# Altium schematic symbol library trafo-hammondmfg.SCHLIB: 112 symbols
Pins are listed as number, name and electrical type; pins without a type are passive.

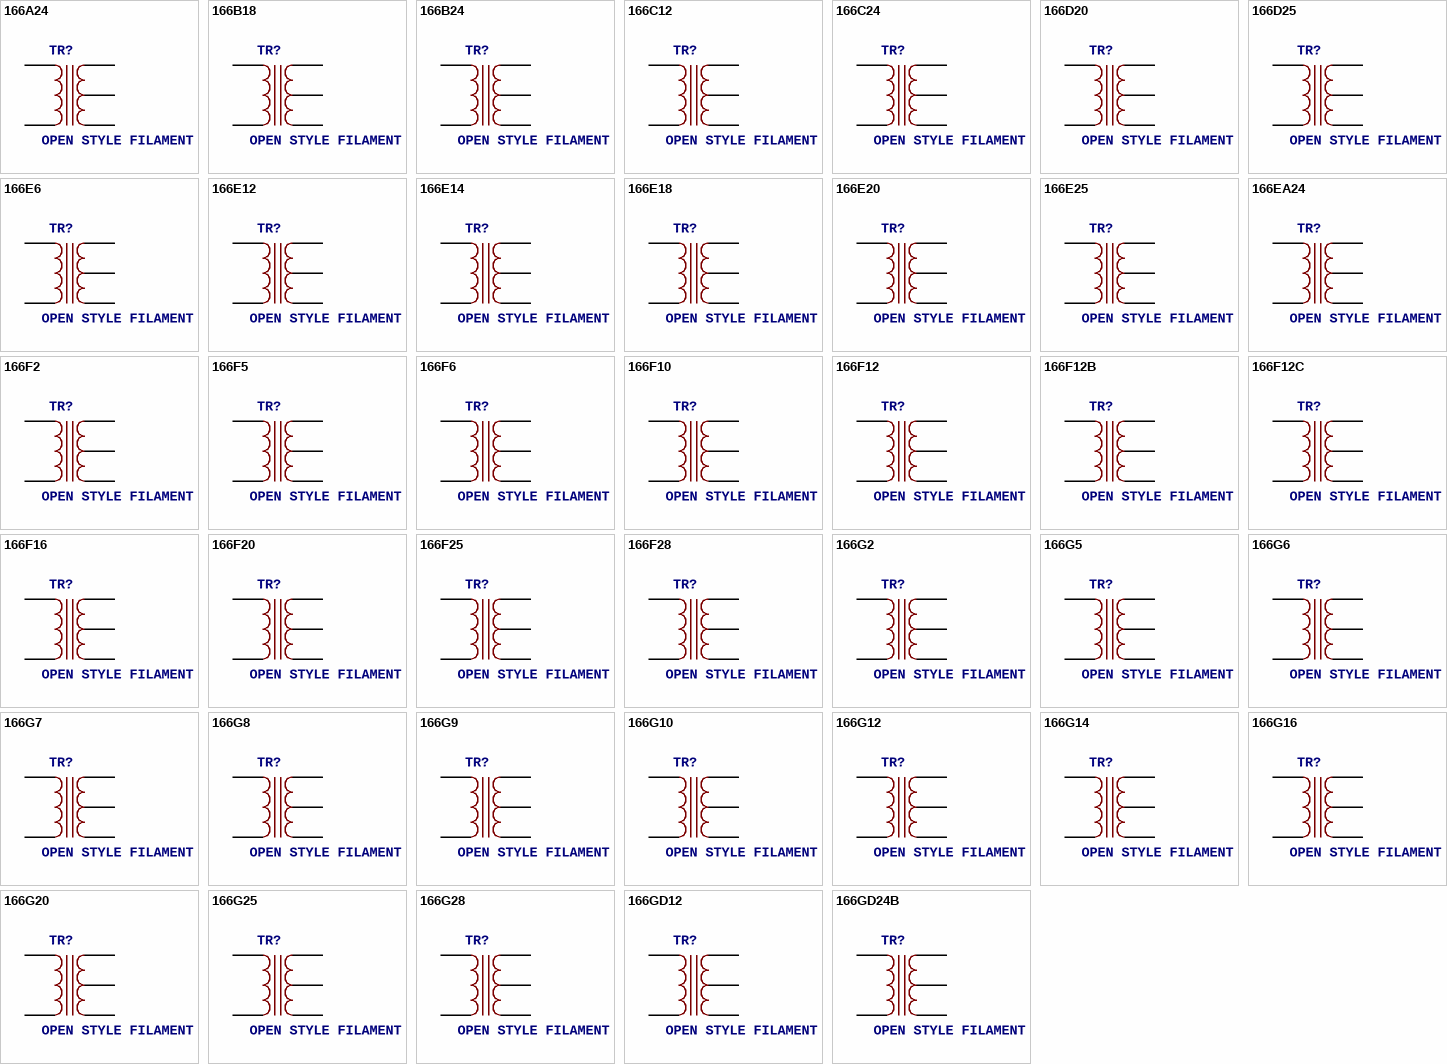
[diagram p0: symbols 166A24 to 166GD24B]

## 166A24
designator TR?, comment OPEN STYLE FILAMENT & L.V. RECTIFIER USE TRANSFORMERS   Economical single primnary 115VAC, 60 Hz or 117 VAC 50/60 Hz Source:  Data sheet
footprint C2H
pins: BLK@1, BLK@2, GRN/YEL, GRN@1, GRN@2

## 166B18
designator TR?, comment OPEN STYLE FILAMENT & L.V. RECTIFIER USE TRANSFORMERS   Economical single primnary 115VAC, 60 Hz or 117 VAC 50/60 Hz Source:  Data sheet
footprint C2H
pins: BLK@1, BLK@2, GRN/YEL, GRN@1, GRN@2

## 166B24
designator TR?, comment OPEN STYLE FILAMENT & L.V. RECTIFIER USE TRANSFORMERS   Economical single primnary 115VAC, 60 Hz or 117 VAC 50/60 Hz Source:  Data sheet
footprint C7H
pins: BLK@1, BLK@2, GRN/YEL, GRN@1, GRN@2

## 166C12
designator TR?, comment OPEN STYLE FILAMENT & L.V. RECTIFIER USE TRANSFORMERS   Economical single primnary 115VAC, 60 Hz or 117 VAC 50/60 Hz Source:  Data sheet
footprint C2H
pins: BLK@1, BLK@2, GRN/YEL, GRN@1, GRN@2

## 166C24
designator TR?, comment OPEN STYLE FILAMENT & L.V. RECTIFIER USE TRANSFORMERS   Economical single primnary 115VAC, 60 Hz or 117 VAC 50/60 Hz Source:  Data sheet
footprint C3H
pins: BLK@1, BLK@2, GRN/YEL, GRN@1, GRN@2

## 166D20
designator TR?, comment OPEN STYLE FILAMENT & L.V. RECTIFIER USE TRANSFORMERS   Economical single primnary 115VAC, 60 Hz or 117 VAC 50/60 Hz Source:  Data sheet
footprint C3H
pins: BLK@1, BLK@2, GRN/YEL, GRN@1, GRN@2

## 166D25
designator TR?, comment OPEN STYLE FILAMENT & L.V. RECTIFIER USE TRANSFORMERS   Economical single primnary 115VAC, 60 Hz or 117 VAC 50/60 Hz Source:  Data sheet
footprint C3H
pins: BLK@1, BLK@2, GRN/YEL, GRN@1, GRN@2

## 166E6
designator TR?, comment OPEN STYLE FILAMENT & L.V. RECTIFIER USE TRANSFORMERS   Economical single primnary 115VAC, 60 Hz or 117 VAC 50/60 Hz Source:  Data sheet
footprint C2H
pins: BLK@1, BLK@2, GRN/YEL, GRN@1, GRN@2

## 166E12
designator TR?, comment OPEN STYLE FILAMENT & L.V. RECTIFIER USE TRANSFORMERS   Economical single primnary 115VAC, 60 Hz or 117 VAC 50/60 Hz Source:  Data sheet
footprint C3H
pins: BLK@1, BLK@2, GRN/YEL, GRN@1, GRN@2

## 166E14
designator TR?, comment OPEN STYLE FILAMENT & L.V. RECTIFIER USE TRANSFORMERS   Economical single primnary 115VAC, 60 Hz or 117 VAC 50/60 Hz Source:  Data sheet
footprint C3H
pins: BLK@1, BLK@2, GRN/YEL, GRN@1, GRN@2

## 166E18
designator TR?, comment OPEN STYLE FILAMENT & L.V. RECTIFIER USE TRANSFORMERS   Economical single primnary 115VAC, 60 Hz or 117 VAC 50/60 Hz Source:  Data sheet
footprint C5H
pins: BLK@1, BLK@2, GRN/YEL, GRN@1, GRN@2

## 166E20
designator TR?, comment OPEN STYLE FILAMENT & L.V. RECTIFIER USE TRANSFORMERS   Economical single primnary 115VAC, 60 Hz or 117 VAC 50/60 Hz Source:  Data sheet
footprint C3H
pins: BLK@1, BLK@2, GRN/YEL, GRN@1, GRN@2

## 166E25
designator TR?, comment OPEN STYLE FILAMENT & L.V. RECTIFIER USE TRANSFORMERS   Economical single primnary 115VAC, 60 Hz or 117 VAC 50/60 Hz Source:  Data sheet
footprint C4H
pins: BLK@1, BLK@2, GRN/YEL, GRN@1, GRN@2

## 166EA24
designator TR?, comment OPEN STYLE FILAMENT & L.V. RECTIFIER USE TRANSFORMERS   Economical single primnary 115VAC, 60 Hz or 117 VAC 50/60 Hz Source:  Data sheet
footprint C5H
pins: BLK@1, BLK@2, GRN/YEL, GRN@1, GRN@2

## 166F2
designator TR?, comment OPEN STYLE FILAMENT & L.V. RECTIFIER USE TRANSFORMERS   Economical single primnary 115VAC, 60 Hz or 117 VAC 50/60 Hz Source:  Data sheet
footprint C2H
pins: BLK@1, BLK@2, GRN/YEL, GRN@1, GRN@2

## 166F5
designator TR?, comment OPEN STYLE FILAMENT & L.V. RECTIFIER USE TRANSFORMERS   Economical single primnary 115VAC, 60 Hz or 117 VAC 50/60 Hz Source:  Data sheet
footprint C2H
pins: BLK@1, BLK@2, GRN/YEL, GRN@1, GRN@2

## 166F6
designator TR?, comment OPEN STYLE FILAMENT & L.V. RECTIFIER USE TRANSFORMERS   Economical single primnary 115VAC, 60 Hz or 117 VAC 50/60 Hz Source:  Data sheet
footprint C3H
pins: BLK@1, BLK@2, GRN/YEL, GRN@1, GRN@2

## 166F10
designator TR?, comment OPEN STYLE FILAMENT & L.V. RECTIFIER USE TRANSFORMERS   Economical single primnary 115VAC, 60 Hz or 117 VAC 50/60 Hz Source:  Data sheet
footprint C3H
pins: BLK@1, BLK@2, GRN/YEL, GRN@1, GRN@2

## 166F12
designator TR?, comment OPEN STYLE FILAMENT & L.V. RECTIFIER USE TRANSFORMERS   Economical single primnary 115VAC, 60 Hz or 117 VAC 50/60 Hz Source:  Data sheet
footprint C4H
pins: BLK@1, BLK@2, GRN/YEL, GRN@1, GRN@2

## 166F12B
designator TR?, comment OPEN STYLE FILAMENT & L.V. RECTIFIER USE TRANSFORMERS   Economical single primnary 115VAC, 60 Hz or 117 VAC 50/60 Hz Source:  Data sheet
footprint C4H
pins: BLK@1, BLK@2, GRN/YEL, GRN@1, GRN@2

## 166F12C
designator TR?, comment OPEN STYLE FILAMENT & L.V. RECTIFIER USE TRANSFORMERS   Economical single primnary 115VAC, 60 Hz or 117 VAC 50/60 Hz Source:  Data sheet
footprint C4H
pins: BLK@1, BLK@2, GRN/YEL, GRN@1, GRN@2

## 166F16
designator TR?, comment OPEN STYLE FILAMENT & L.V. RECTIFIER USE TRANSFORMERS   Economical single primnary 115VAC, 60 Hz or 117 VAC 50/60 Hz Source:  Data sheet
footprint C4H
pins: BLK@1, BLK@2, GRN/YEL, GRN@1, GRN@2

## 166F20
designator TR?, comment OPEN STYLE FILAMENT & L.V. RECTIFIER USE TRANSFORMERS   Economical single primnary 115VAC, 60 Hz or 117 VAC 50/60 Hz Source:  Data sheet
footprint C5H
pins: BLK@1, BLK@2, GRN/YEL, GRN@1, GRN@2

## 166F25
designator TR?, comment OPEN STYLE FILAMENT & L.V. RECTIFIER USE TRANSFORMERS   Economical single primnary 115VAC, 60 Hz or 117 VAC 50/60 Hz Source:  Data sheet
footprint C6H
pins: BLK@1, BLK@2, GRN/YEL, GRN@1, GRN@2

## 166F28
designator TR?, comment OPEN STYLE FILAMENT & L.V. RECTIFIER USE TRANSFORMERS   Economical single primnary 115VAC, 60 Hz or 117 VAC 50/60 Hz Source:  Data sheet
footprint C6H
pins: BLK@1, BLK@2, GRN/YEL, GRN@1, GRN@2

## 166G2
designator TR?, comment OPEN STYLE FILAMENT & L.V. RECTIFIER USE TRANSFORMERS   Economical single primnary 115VAC, 60 Hz or 117 VAC 50/60 Hz Source:  Data sheet
footprint C2H
pins: BLK@1, BLK@2, GRN/YEL, GRN@1, GRN@2

## 166G5
designator TR?, comment OPEN STYLE FILAMENT & L.V. RECTIFIER USE TRANSFORMERS   Economical single primnary 115VAC, 60 Hz or 117 VAC 50/60 Hz Source:  Data sheet
footprint C3H
pins: BLK@1, BLK@2, GRN/YEL, GRN@1, GRN@2

## 166G6
designator TR?, comment OPEN STYLE FILAMENT & L.V. RECTIFIER USE TRANSFORMERS   Economical single primnary 115VAC, 60 Hz or 117 VAC 50/60 Hz Source:  Data sheet
footprint C4H
pins: BLK@1, BLK@2, GRN/YEL, GRN@1, GRN@2

## 166G7
designator TR?, comment OPEN STYLE FILAMENT & L.V. RECTIFIER USE TRANSFORMERS   Economical single primnary 115VAC, 60 Hz or 117 VAC 50/60 Hz Source:  Data sheet
footprint C5H
pins: BLK@1, BLK@2, GRN/YEL, GRN@1, GRN@2

## 166G8
designator TR?, comment OPEN STYLE FILAMENT & L.V. RECTIFIER USE TRANSFORMERS   Economical single primnary 115VAC, 60 Hz or 117 VAC 50/60 Hz Source:  Data sheet
footprint C4H
pins: BLK@1, BLK@2, GRN/YEL, GRN@1, GRN@2

## 166G9
designator TR?, comment OPEN STYLE FILAMENT & L.V. RECTIFIER USE TRANSFORMERS   Economical single primnary 115VAC, 60 Hz or 117 VAC 50/60 Hz Source:  Data sheet
footprint C4H
pins: BLK@1, BLK@2, GRN/YEL, GRN@1, GRN@2

## 166G10
designator TR?, comment OPEN STYLE FILAMENT & L.V. RECTIFIER USE TRANSFORMERS   Economical single primnary 115VAC, 60 Hz or 117 VAC 50/60 Hz Source:  Data sheet
footprint C5H
pins: BLK@1, BLK@2, GRN/YEL, GRN@1, GRN@2

## 166G12
designator TR?, comment OPEN STYLE FILAMENT & L.V. RECTIFIER USE TRANSFORMERS   Economical single primnary 115VAC, 60 Hz or 117 VAC 50/60 Hz Source:  Data sheet
footprint C6H
pins: BLK@1, BLK@2, GRN/YEL, GRN@1, GRN@2

## 166G14
designator TR?, comment OPEN STYLE FILAMENT & L.V. RECTIFIER USE TRANSFORMERS   Economical single primnary 115VAC, 60 Hz or 117 VAC 50/60 Hz Source:  Data sheet
footprint C6H
pins: BLK@1, BLK@2, GRN/YEL, GRN@1, GRN@2

## 166G16
designator TR?, comment OPEN STYLE FILAMENT & L.V. RECTIFIER USE TRANSFORMERS   Economical single primnary 115VAC, 60 Hz or 117 VAC 50/60 Hz Source:  Data sheet
footprint C6H
pins: BLK@1, BLK@2, GRN/YEL, GRN@1, GRN@2

## 166G20
designator TR?, comment OPEN STYLE FILAMENT & L.V. RECTIFIER USE TRANSFORMERS   Economical single primnary 115VAC, 60 Hz or 117 VAC 50/60 Hz Source:  Data sheet
footprint C7H
pins: BLK@1, BLK@2, GRN/YEL, GRN@1, GRN@2

## 166G25
designator TR?, comment OPEN STYLE FILAMENT & L.V. RECTIFIER USE TRANSFORMERS   Economical single primnary 115VAC, 60 Hz or 117 VAC 50/60 Hz Source:  Data sheet
footprint C7H
pins: BLK@1, BLK@2, GRN/YEL, GRN@1, GRN@2

## 166G28
designator TR?, comment OPEN STYLE FILAMENT & L.V. RECTIFIER USE TRANSFORMERS   Economical single primnary 115VAC, 60 Hz or 117 VAC 50/60 Hz Source:  Data sheet
footprint C7H
pins: BLK@1, BLK@2, GRN/YEL, GRN@1, GRN@2

## 166GD12
designator TR?, comment OPEN STYLE FILAMENT & L.V. RECTIFIER USE TRANSFORMERS   Economical single primnary 115VAC, 60 Hz or 117 VAC 50/60 Hz Source:  Data sheet
footprint C7H
pins: BLK@1, BLK@2, GRN/YEL, GRN@1, GRN@2

## 166GD24B
designator TR?, comment OPEN STYLE FILAMENT & L.V. RECTIFIER USE TRANSFORMERS   Economical single primnary 115VAC, 60 Hz or 117 VAC 50/60 Hz Source:  Data sheet
footprint C9H
pins: BLK@1, BLK@2, GRN/YEL, GRN@1, GRN@2

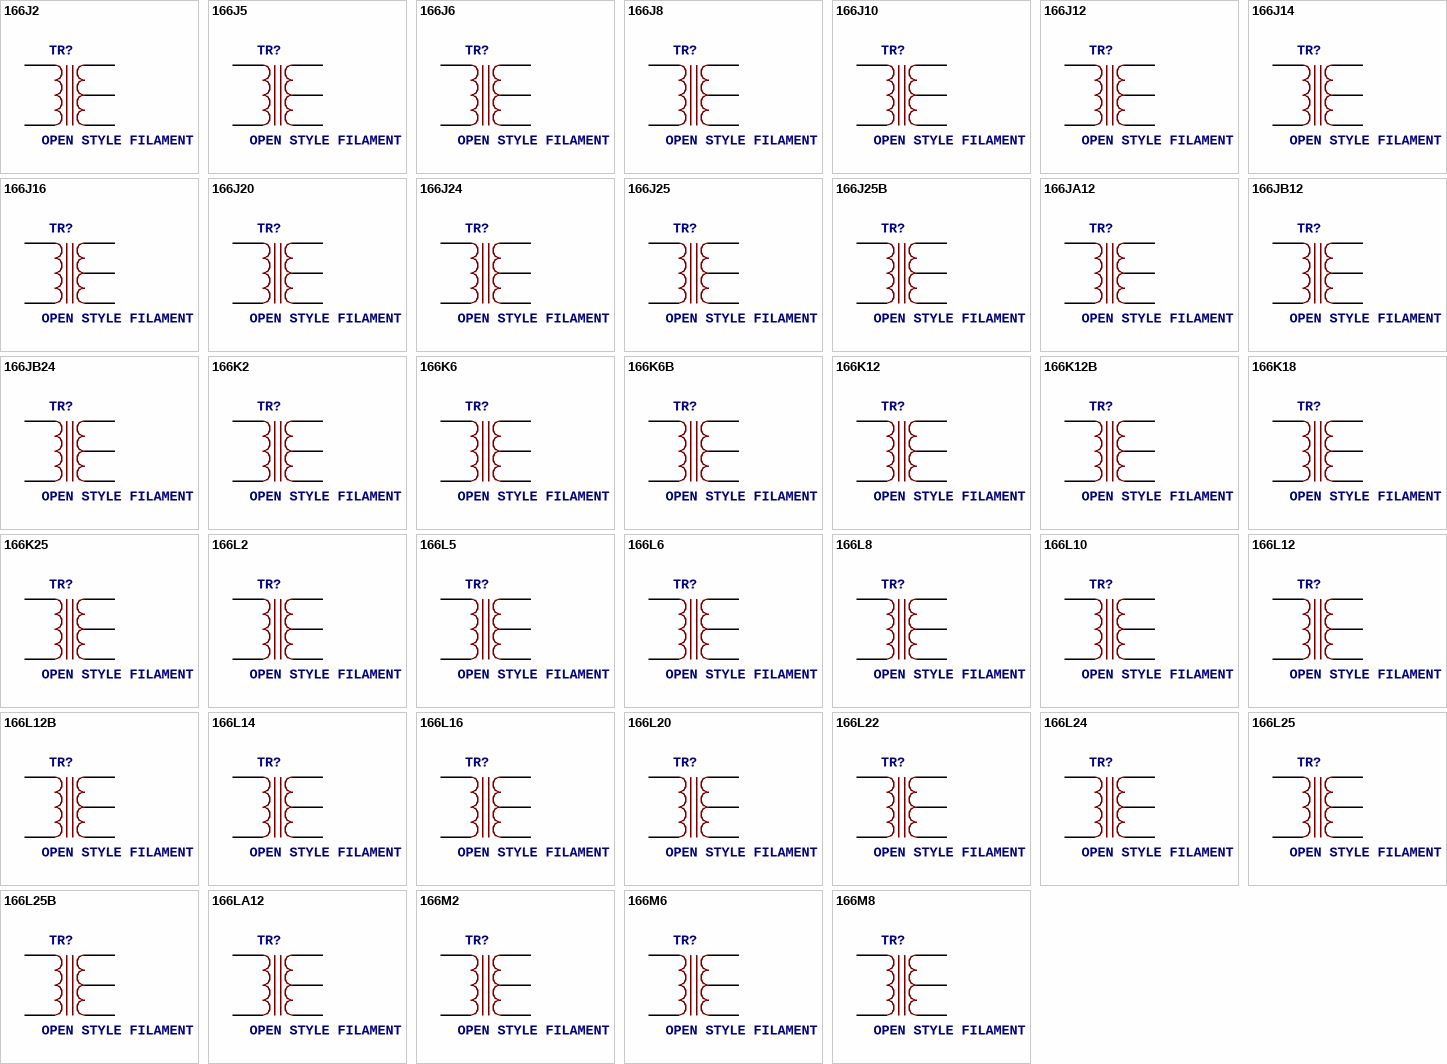
[diagram p1: symbols 166J2 to 166M8]

## 166J2
designator TR?, comment OPEN STYLE FILAMENT & L.V. RECTIFIER USE TRANSFORMERS   Economical single primnary 115VAC, 60 Hz or 117 VAC 50/60 Hz Source:  Data sheet
footprint C3H
pins: BLK@1, BLK@2, GRN/YEL, GRN@1, GRN@2

## 166J5
designator TR?, comment OPEN STYLE FILAMENT & L.V. RECTIFIER USE TRANSFORMERS   Economical single primnary 115VAC, 60 Hz or 117 VAC 50/60 Hz Source:  Data sheet
footprint C5H
pins: BLK@1, BLK@2, GRN/YEL, GRN@1, GRN@2

## 166J6
designator TR?, comment OPEN STYLE FILAMENT & L.V. RECTIFIER USE TRANSFORMERS   Economical single primnary 115VAC, 60 Hz or 117 VAC 50/60 Hz Source:  Data sheet
footprint C6H
pins: BLK@1, BLK@2, GRN/YEL, GRN@1, GRN@2

## 166J8
designator TR?, comment OPEN STYLE FILAMENT & L.V. RECTIFIER USE TRANSFORMERS   Economical single primnary 115VAC, 60 Hz or 117 VAC 50/60 Hz Source:  Data sheet
footprint C6H
pins: BLK@1, BLK@2, GRN/YEL, GRN@1, GRN@2

## 166J10
designator TR?, comment OPEN STYLE FILAMENT & L.V. RECTIFIER USE TRANSFORMERS   Economical single primnary 115VAC, 60 Hz or 117 VAC 50/60 Hz Source:  Data sheet
footprint C7H
pins: BLK@1, BLK@2, GRN/YEL, GRN@1, GRN@2

## 166J12
designator TR?, comment OPEN STYLE FILAMENT & L.V. RECTIFIER USE TRANSFORMERS   Economical single primnary 115VAC, 60 Hz or 117 VAC 50/60 Hz Source:  Data sheet
footprint C7H
pins: BLK@1, BLK@2, GRN/YEL, GRN@1, GRN@2

## 166J14
designator TR?, comment OPEN STYLE FILAMENT & L.V. RECTIFIER USE TRANSFORMERS   Economical single primnary 115VAC, 60 Hz or 117 VAC 50/60 Hz Source:  Data sheet
footprint C7H
pins: BLK@1, BLK@2, GRN/YEL, GRN@1, GRN@2

## 166J16
designator TR?, comment OPEN STYLE FILAMENT & L.V. RECTIFIER USE TRANSFORMERS   Economical single primnary 115VAC, 60 Hz or 117 VAC 50/60 Hz Source:  Data sheet
footprint C8H
pins: BLK@1, BLK@2, GRN/YEL, GRN@1, GRN@2

## 166J20
designator TR?, comment OPEN STYLE FILAMENT & L.V. RECTIFIER USE TRANSFORMERS   Economical single primnary 115VAC, 60 Hz or 117 VAC 50/60 Hz Source:  Data sheet
footprint C9H
pins: BLK@1, BLK@2, GRN/YEL, GRN@1, GRN@2

## 166J24
designator TR?, comment OPEN STYLE FILAMENT & L.V. RECTIFIER USE TRANSFORMERS   Economical single primnary 115VAC, 60 Hz or 117 VAC 50/60 Hz Source:  Data sheet
footprint C10H
pins: BLK@1, BLK@2, GRN/YEL, GRN@1, GRN@2

## 166J25
designator TR?, comment OPEN STYLE FILAMENT & L.V. RECTIFIER USE TRANSFORMERS   Economical single primnary 115VAC, 60 Hz or 117 VAC 50/60 Hz Source:  Data sheet
footprint C9H
pins: BLK@1, BLK@2, GRN/YEL, GRN@1, GRN@2

## 166J25B
designator TR?, comment OPEN STYLE FILAMENT & L.V. RECTIFIER USE TRANSFORMERS   Economical single primnary 115VAC, 60 Hz or 117 VAC 50/60 Hz Source:  Data sheet
footprint C10H
pins: BLK@1, BLK@2, GRN/YEL, GRN@1, GRN@2

## 166JA12
designator TR?, comment OPEN STYLE FILAMENT & L.V. RECTIFIER USE TRANSFORMERS   Economical single primnary 115VAC, 60 Hz or 117 VAC 50/60 Hz Source:  Data sheet
footprint C7H
pins: BLK@1, BLK@2, GRN/YEL, GRN@1, GRN@2

## 166JB12
designator TR?, comment OPEN STYLE FILAMENT & L.V. RECTIFIER USE TRANSFORMERS   Economical single primnary 115VAC, 60 Hz or 117 VAC 50/60 Hz Source:  Data sheet
footprint C9H
pins: BLK@1, BLK@2, GRN/YEL, GRN@1, GRN@2

## 166JB24
designator TR?, comment OPEN STYLE FILAMENT & L.V. RECTIFIER USE TRANSFORMERS   Economical single primnary 115VAC, 60 Hz or 117 VAC 50/60 Hz Source:  Data sheet
footprint C9H
pins: BLK@1, BLK@2, GRN/YEL, GRN@1, GRN@2

## 166K2
designator TR?, comment OPEN STYLE FILAMENT & L.V. RECTIFIER USE TRANSFORMERS   Economical single primnary 115VAC, 60 Hz or 117 VAC 50/60 Hz Source:  Data sheet
footprint C4H
pins: BLK@1, BLK@2, GRN/YEL, GRN@1, GRN@2

## 166K6
designator TR?, comment OPEN STYLE FILAMENT & L.V. RECTIFIER USE TRANSFORMERS   Economical single primnary 115VAC, 60 Hz or 117 VAC 50/60 Hz Source:  Data sheet
footprint C6H
pins: BLK@1, BLK@2, GRN/YEL, GRN@1, GRN@2

## 166K6B
designator TR?, comment OPEN STYLE FILAMENT & L.V. RECTIFIER USE TRANSFORMERS   Economical single primnary 115VAC, 60 Hz or 117 VAC 50/60 Hz Source:  Data sheet
footprint C6H
pins: BLK@1, BLK@2, GRN/YEL, GRN@1, GRN@2

## 166K12
designator TR?, comment OPEN STYLE FILAMENT & L.V. RECTIFIER USE TRANSFORMERS   Economical single primnary 115VAC, 60 Hz or 117 VAC 50/60 Hz Source:  Data sheet
footprint C8H
pins: BLK@1, BLK@2, GRN/YEL, GRN@1, GRN@2

## 166K12B
designator TR?, comment OPEN STYLE FILAMENT & L.V. RECTIFIER USE TRANSFORMERS   Economical single primnary 115VAC, 60 Hz or 117 VAC 50/60 Hz Source:  Data sheet
footprint C10H
pins: BLK@1, BLK@2, GRN/YEL, GRN@1, GRN@2

## 166K18
designator TR?, comment OPEN STYLE FILAMENT & L.V. RECTIFIER USE TRANSFORMERS   Economical single primnary 115VAC, 60 Hz or 117 VAC 50/60 Hz Source:  Data sheet
footprint C9H
pins: BLK@1, BLK@2, GRN/YEL, GRN@1, GRN@2

## 166K25
designator TR?, comment OPEN STYLE FILAMENT & L.V. RECTIFIER USE TRANSFORMERS   Economical single primnary 115VAC, 60 Hz or 117 VAC 50/60 Hz Source:  Data sheet
footprint C11H
pins: BLK@1, BLK@2, GRN/YEL, GRN@1, GRN@2

## 166L2
designator TR?, comment OPEN STYLE FILAMENT & L.V. RECTIFIER USE TRANSFORMERS   Economical single primnary 115VAC, 60 Hz or 117 VAC 50/60 Hz Source:  Data sheet
footprint C6H
pins: BLK@1, BLK@2, GRN/YEL, GRN@1, GRN@2

## 166L5
designator TR?, comment OPEN STYLE FILAMENT & L.V. RECTIFIER USE TRANSFORMERS   Economical single primnary 115VAC, 60 Hz or 117 VAC 50/60 Hz Source:  Data sheet
footprint C7H
pins: BLK@1, BLK@2, GRN/YEL, GRN@1, GRN@2

## 166L6
designator TR?, comment OPEN STYLE FILAMENT & L.V. RECTIFIER USE TRANSFORMERS   Economical single primnary 115VAC, 60 Hz or 117 VAC 50/60 Hz Source:  Data sheet
footprint C7H
pins: BLK@1, BLK@2, GRN/YEL, GRN@1, GRN@2

## 166L8
designator TR?, comment OPEN STYLE FILAMENT & L.V. RECTIFIER USE TRANSFORMERS   Economical single primnary 115VAC, 60 Hz or 117 VAC 50/60 Hz Source:  Data sheet
footprint C8H
pins: BLK@1, BLK@2, GRN/YEL, GRN@1, GRN@2

## 166L10
designator TR?, comment OPEN STYLE FILAMENT & L.V. RECTIFIER USE TRANSFORMERS   Economical single primnary 115VAC, 60 Hz or 117 VAC 50/60 Hz Source:  Data sheet
footprint C9H
pins: BLK@1, BLK@2, GRN/YEL, GRN@1, GRN@2

## 166L12
designator TR?, comment OPEN STYLE FILAMENT & L.V. RECTIFIER USE TRANSFORMERS   Economical single primnary 115VAC, 60 Hz or 117 VAC 50/60 Hz Source:  Data sheet
footprint C10H
pins: BLK@1, BLK@2, GRN/YEL, GRN@1, GRN@2

## 166L12B
designator TR?, comment OPEN STYLE FILAMENT & L.V. RECTIFIER USE TRANSFORMERS   Economical single primnary 115VAC, 60 Hz or 117 VAC 50/60 Hz Source:  Data sheet
footprint C10H
pins: BLK@1, BLK@2, GRN/YEL, GRN@1, GRN@2

## 166L14
designator TR?, comment OPEN STYLE FILAMENT & L.V. RECTIFIER USE TRANSFORMERS   Economical single primnary 115VAC, 60 Hz or 117 VAC 50/60 Hz Source:  Data sheet
footprint C10H
pins: BLK@1, BLK@2, GRN/YEL, GRN@1, GRN@2

## 166L16
designator TR?, comment OPEN STYLE FILAMENT & L.V. RECTIFIER USE TRANSFORMERS   Economical single primnary 115VAC, 60 Hz or 117 VAC 50/60 Hz Source:  Data sheet
footprint C10H
pins: BLK@1, BLK@2, GRN/YEL, GRN@1, GRN@2

## 166L20
designator TR?, comment OPEN STYLE FILAMENT & L.V. RECTIFIER USE TRANSFORMERS   Economical single primnary 115VAC, 60 Hz or 117 VAC 50/60 Hz Source:  Data sheet
footprint C11H
pins: BLK@1, BLK@2, GRN/YEL, GRN@1, GRN@2

## 166L22
designator TR?, comment OPEN STYLE FILAMENT & L.V. RECTIFIER USE TRANSFORMERS   Economical single primnary 115VAC, 60 Hz or 117 VAC 50/60 Hz Source:  Data sheet
footprint C13H
pins: BLK@1, BLK@2, GRN/YEL, GRN@1, GRN@2

## 166L24
designator TR?, comment OPEN STYLE FILAMENT & L.V. RECTIFIER USE TRANSFORMERS   Economical single primnary 115VAC, 60 Hz or 117 VAC 50/60 Hz Source:  Data sheet
footprint C13H
pins: BLK@1, BLK@2, GRN/YEL, GRN@1, GRN@2

## 166L25
designator TR?, comment OPEN STYLE FILAMENT & L.V. RECTIFIER USE TRANSFORMERS   Economical single primnary 115VAC, 60 Hz or 117 VAC 50/60 Hz Source:  Data sheet
footprint C13H
pins: BLK@1, BLK@2, GRN/YEL, GRN@1, GRN@2

## 166L25B
designator TR?, comment OPEN STYLE FILAMENT & L.V. RECTIFIER USE TRANSFORMERS   Economical single primnary 115VAC, 60 Hz or 117 VAC 50/60 Hz Source:  Data sheet
footprint C14H
pins: BLK@1, BLK@2, GRN/YEL, GRN@1, GRN@2

## 166LA12
designator TR?, comment OPEN STYLE FILAMENT & L.V. RECTIFIER USE TRANSFORMERS   Economical single primnary 115VAC, 60 Hz or 117 VAC 50/60 Hz Source:  Data sheet
footprint C9H
pins: BLK@1, BLK@2, GRN/YEL, GRN@1, GRN@2

## 166M2
designator TR?, comment OPEN STYLE FILAMENT & L.V. RECTIFIER USE TRANSFORMERS   Economical single primnary 115VAC, 60 Hz or 117 VAC 50/60 Hz Source:  Data sheet
footprint C6H
pins: BLK@1, BLK@2, GRN/YEL, GRN@1, GRN@2

## 166M6
designator TR?, comment OPEN STYLE FILAMENT & L.V. RECTIFIER USE TRANSFORMERS   Economical single primnary 115VAC, 60 Hz or 117 VAC 50/60 Hz Source:  Data sheet
footprint C10H
pins: BLK@1, BLK@2, GRN/YEL, GRN@1, GRN@2

## 166M8
designator TR?, comment OPEN STYLE FILAMENT & L.V. RECTIFIER USE TRANSFORMERS   Economical single primnary 115VAC, 60 Hz or 117 VAC 50/60 Hz Source:  Data sheet
footprint C9H
pins: BLK@1, BLK@2, GRN/YEL, GRN@1, GRN@2

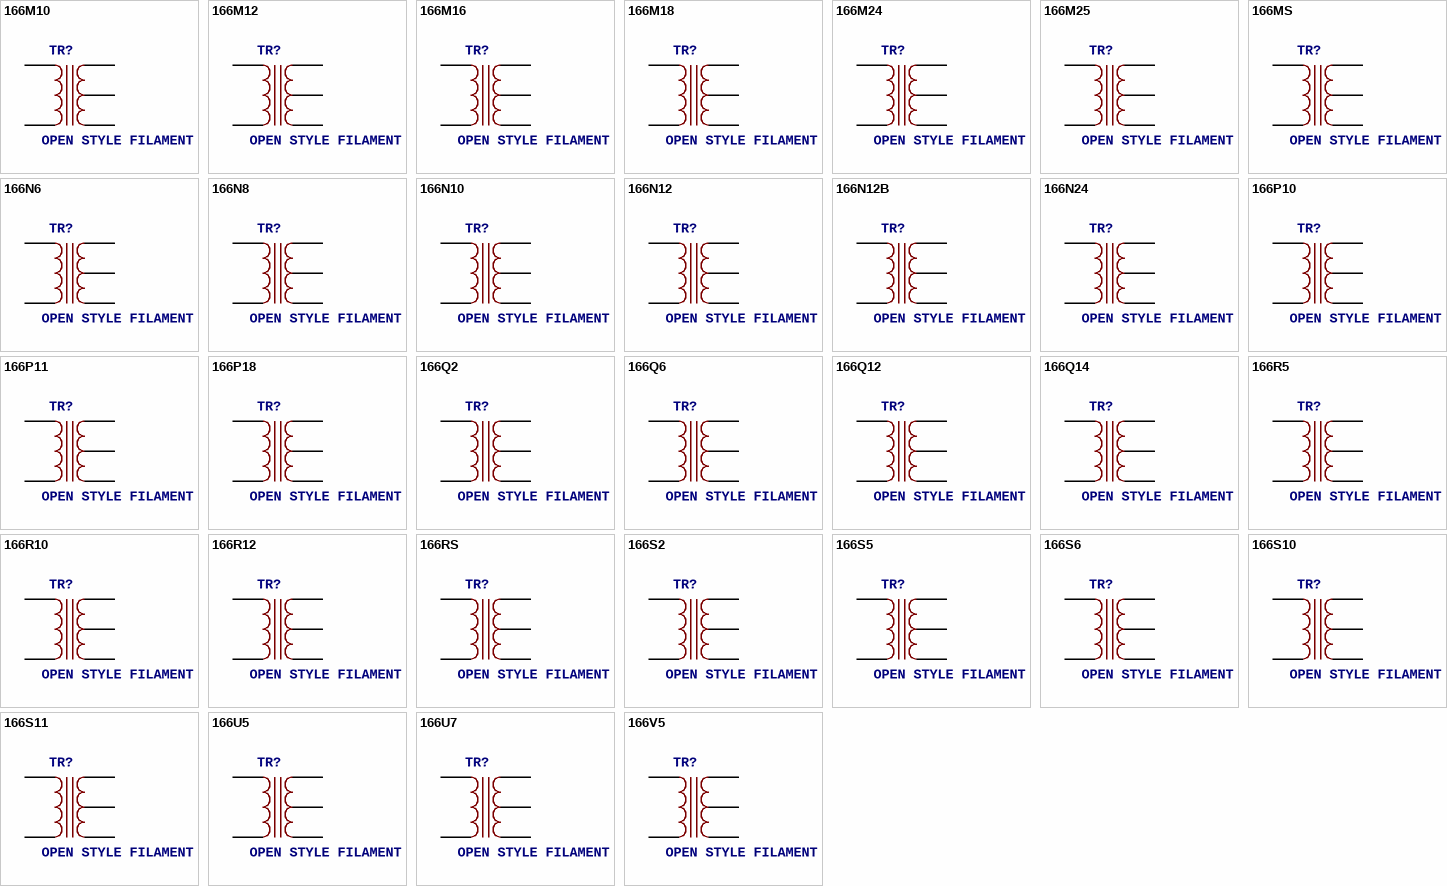
[diagram p2: symbols 166M10 to 166V5]

## 166M10
designator TR?, comment OPEN STYLE FILAMENT & L.V. RECTIFIER USE TRANSFORMERS   Economical single primnary 115VAC, 60 Hz or 117 VAC 50/60 Hz Source:  Data sheet
footprint C10H
pins: BLK@1, BLK@2, GRN/YEL, GRN@1, GRN@2

## 166M12
designator TR?, comment OPEN STYLE FILAMENT & L.V. RECTIFIER USE TRANSFORMERS   Economical single primnary 115VAC, 60 Hz or 117 VAC 50/60 Hz Source:  Data sheet
footprint C13H
pins: BLK@1, BLK@2, GRN/YEL, GRN@1, GRN@2

## 166M16
designator TR?, comment OPEN STYLE FILAMENT & L.V. RECTIFIER USE TRANSFORMERS   Economical single primnary 115VAC, 60 Hz or 117 VAC 50/60 Hz Source:  Data sheet
footprint C13H
pins: BLK@1, BLK@2, GRN/YEL, GRN@1, GRN@2

## 166M18
designator TR?, comment OPEN STYLE FILAMENT & L.V. RECTIFIER USE TRANSFORMERS   Economical single primnary 115VAC, 60 Hz or 117 VAC 50/60 Hz Source:  Data sheet
footprint C13H
pins: BLK@1, BLK@2, GRN/YEL, GRN@1, GRN@2

## 166M24
designator TR?, comment OPEN STYLE FILAMENT & L.V. RECTIFIER USE TRANSFORMERS   Economical single primnary 115VAC, 60 Hz or 117 VAC 50/60 Hz Source:  Data sheet
footprint C14H
pins: BLK@1, BLK@2, GRN/YEL, GRN@1, GRN@2

## 166M25
designator TR?, comment OPEN STYLE FILAMENT & L.V. RECTIFIER USE TRANSFORMERS   Economical single primnary 115VAC, 60 Hz or 117 VAC 50/60 Hz Source:  Data sheet
footprint C14H
pins: BLK@1, BLK@2, GRN/YEL, GRN@1, GRN@2

## 166MS
designator TR?, comment OPEN STYLE FILAMENT & L.V. RECTIFIER USE TRANSFORMERS   Economical single primnary 115VAC, 60 Hz or 117 VAC 50/60 Hz Source:  Data sheet
footprint C9H
pins: BLK@1, BLK@2, GRN/YEL, GRN@1, GRN@2

## 166N6
designator TR?, comment OPEN STYLE FILAMENT & L.V. RECTIFIER USE TRANSFORMERS   Economical single primnary 115VAC, 60 Hz or 117 VAC 50/60 Hz Source:  Data sheet
footprint C9H
pins: BLK@1, BLK@2, GRN/YEL, GRN@1, GRN@2

## 166N8
designator TR?, comment OPEN STYLE FILAMENT & L.V. RECTIFIER USE TRANSFORMERS   Economical single primnary 115VAC, 60 Hz or 117 VAC 50/60 Hz Source:  Data sheet
footprint C10H
pins: BLK@1, BLK@2, GRN/YEL, GRN@1, GRN@2

## 166N10
designator TR?, comment OPEN STYLE FILAMENT & L.V. RECTIFIER USE TRANSFORMERS   Economical single primnary 115VAC, 60 Hz or 117 VAC 50/60 Hz Source:  Data sheet
footprint C12H
pins: BLK@1, BLK@2, GRN/YEL, GRN@1, GRN@2

## 166N12
designator TR?, comment OPEN STYLE FILAMENT & L.V. RECTIFIER USE TRANSFORMERS   Economical single primnary 115VAC, 60 Hz or 117 VAC 50/60 Hz Source:  Data sheet
footprint C13H
pins: BLK@1, BLK@2, GRN/YEL, GRN@1, GRN@2

## 166N12B
designator TR?, comment OPEN STYLE FILAMENT & L.V. RECTIFIER USE TRANSFORMERS   Economical single primnary 115VAC, 60 Hz or 117 VAC 50/60 Hz Source:  Data sheet
footprint C12H
pins: BLK@1, BLK@2, GRN/YEL, GRN@1, GRN@2

## 166N24
designator TR?, comment OPEN STYLE FILAMENT & L.V. RECTIFIER USE TRANSFORMERS   Economical single primnary 115VAC, 60 Hz or 117 VAC 50/60 Hz Source:  Data sheet
footprint C16H
pins: BLK@1, BLK@2, GRN/YEL, GRN@1, GRN@2

## 166P10
designator TR?, comment OPEN STYLE FILAMENT & L.V. RECTIFIER USE TRANSFORMERS   Economical single primnary 115VAC, 60 Hz or 117 VAC 50/60 Hz Source:  Data sheet
footprint C13H
pins: BLK@1, BLK@2, GRN/YEL, GRN@1, GRN@2

## 166P11
designator TR?, comment OPEN STYLE FILAMENT & L.V. RECTIFIER USE TRANSFORMERS   Economical single primnary 115VAC, 60 Hz or 117 VAC 50/60 Hz Source:  Data sheet
footprint C13H
pins: BLK@1, BLK@2, GRN/YEL, GRN@1, GRN@2

## 166P18
designator TR?, comment OPEN STYLE FILAMENT & L.V. RECTIFIER USE TRANSFORMERS   Economical single primnary 115VAC, 60 Hz or 117 VAC 50/60 Hz Source:  Data sheet
footprint C15H
pins: BLK@1, BLK@2, GRN/YEL, GRN@1, GRN@2

## 166Q2
designator TR?, comment OPEN STYLE FILAMENT & L.V. RECTIFIER USE TRANSFORMERS   Economical single primnary 115VAC, 60 Hz or 117 VAC 50/60 Hz Source:  Data sheet
footprint C8H
pins: BLK@1, BLK@2, GRN/YEL, GRN@1, GRN@2

## 166Q6
designator TR?, comment OPEN STYLE FILAMENT & L.V. RECTIFIER USE TRANSFORMERS   Economical single primnary 115VAC, 60 Hz or 117 VAC 50/60 Hz Source:  Data sheet
footprint C12H
pins: BLK@1, BLK@2, GRN/YEL, GRN@1, GRN@2

## 166Q12
designator TR?, comment OPEN STYLE FILAMENT & L.V. RECTIFIER USE TRANSFORMERS   Economical single primnary 115VAC, 60 Hz or 117 VAC 50/60 Hz Source:  Data sheet
footprint C14H
pins: BLK@1, BLK@2, GRN/YEL, GRN@1, GRN@2

## 166Q14
designator TR?, comment OPEN STYLE FILAMENT & L.V. RECTIFIER USE TRANSFORMERS   Economical single primnary 115VAC, 60 Hz or 117 VAC 50/60 Hz Source:  Data sheet
footprint C15H
pins: BLK@1, BLK@2, GRN/YEL, GRN@1, GRN@2

## 166R5
designator TR?, comment OPEN STYLE FILAMENT & L.V. RECTIFIER USE TRANSFORMERS   Economical single primnary 115VAC, 60 Hz or 117 VAC 50/60 Hz Source:  Data sheet
footprint C12H
pins: BLK@1, BLK@2, GRN/YEL, GRN@1, GRN@2

## 166R10
designator TR?, comment OPEN STYLE FILAMENT & L.V. RECTIFIER USE TRANSFORMERS   Economical single primnary 115VAC, 60 Hz or 117 VAC 50/60 Hz Source:  Data sheet
footprint C15H
pins: BLK@1, BLK@2, GRN/YEL, GRN@1, GRN@2

## 166R12
designator TR?, comment OPEN STYLE FILAMENT & L.V. RECTIFIER USE TRANSFORMERS   Economical single primnary 115VAC, 60 Hz or 117 VAC 50/60 Hz Source:  Data sheet
footprint C16H
pins: BLK@1, BLK@2, GRN/YEL, GRN@1, GRN@2

## 166RS
designator TR?, comment OPEN STYLE FILAMENT & L.V. RECTIFIER USE TRANSFORMERS   Economical single primnary 115VAC, 60 Hz or 117 VAC 50/60 Hz Source:  Data sheet
footprint C16H
pins: BLK@1, BLK@2, GRN/YEL, GRN@1, GRN@2

## 166S2
designator TR?, comment OPEN STYLE FILAMENT & L.V. RECTIFIER USE TRANSFORMERS   Economical single primnary 115VAC, 60 Hz or 117 VAC 50/60 Hz Source:  Data sheet
footprint C12H
pins: BLK@1, BLK@2, GRN/YEL, GRN@1, GRN@2

## 166S5
designator TR?, comment OPEN STYLE FILAMENT & L.V. RECTIFIER USE TRANSFORMERS   Economical single primnary 115VAC, 60 Hz or 117 VAC 50/60 Hz Source:  Data sheet
footprint C13H
pins: BLK@1, BLK@2, GRN/YEL, GRN@1, GRN@2

## 166S6
designator TR?, comment OPEN STYLE FILAMENT & L.V. RECTIFIER USE TRANSFORMERS   Economical single primnary 115VAC, 60 Hz or 117 VAC 50/60 Hz Source:  Data sheet
footprint C14H
pins: BLK@1, BLK@2, GRN/YEL, GRN@1, GRN@2

## 166S10
designator TR?, comment OPEN STYLE FILAMENT & L.V. RECTIFIER USE TRANSFORMERS   Economical single primnary 115VAC, 60 Hz or 117 VAC 50/60 Hz Source:  Data sheet
footprint C16H
pins: BLK@1, BLK@2, GRN/YEL, GRN@1, GRN@2

## 166S11
designator TR?, comment OPEN STYLE FILAMENT & L.V. RECTIFIER USE TRANSFORMERS   Economical single primnary 115VAC, 60 Hz or 117 VAC 50/60 Hz Source:  Data sheet
footprint C16H
pins: BLK@1, BLK@2, GRN/YEL, GRN@1, GRN@2

## 166U5
designator TR?, comment OPEN STYLE FILAMENT & L.V. RECTIFIER USE TRANSFORMERS   Economical single primnary 115VAC, 60 Hz or 117 VAC 50/60 Hz Source:  Data sheet
footprint C14H
pins: BLK@1, BLK@2, GRN/YEL, GRN@1, GRN@2

## 166U7
designator TR?, comment OPEN STYLE FILAMENT & L.V. RECTIFIER USE TRANSFORMERS   Economical single primnary 115VAC, 60 Hz or 117 VAC 50/60 Hz Source:  Data sheet
footprint C16H
pins: BLK@1, BLK@2, GRN/YEL, GRN@1, GRN@2

## 166V5
designator TR?, comment OPEN STYLE FILAMENT & L.V. RECTIFIER USE TRANSFORMERS   Economical single primnary 115VAC, 60 Hz or 117 VAC 50/60 Hz Source:  Data sheet
footprint C16H
pins: BLK@1, BLK@2, GRN/YEL, GRN@1, GRN@2